# Altium footprint library NT90RNCS12CB.PcbLib: 1 footprints
Each footprint in its own frame and in the unit in brackets; x right, y up, seen from the top. Pads: shape width x height; smd on the part's side, far side on the other; paste and mask are expansions set on the pad; w line width, h text height; cw(c..) or ccw(c..) is an arc to the next point about the centre after c.
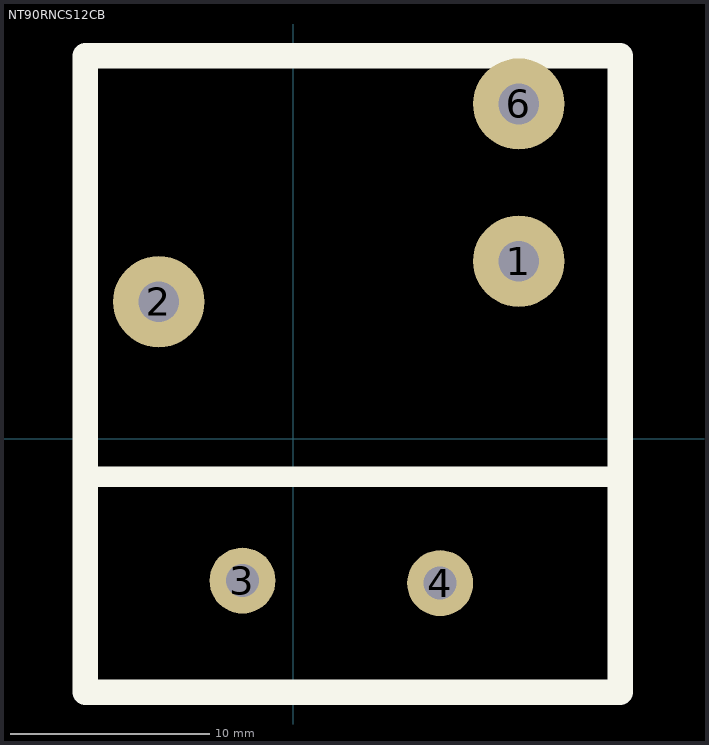
[diagram p0: the footprint, top view; thin cyan lines are the x and y axes]

## NT90RNCS12CB [mil]
pads (5):
  round 180 hole 80: 1(445,350) 2(-265,270) 6(445,660)
  round 130 hole 65: 3(-100,-280) 4(290,-285)
Top Overlay:
  lines w40: -410,-500 650,-500 650,-75 -410,-75 -410,-500
  lines w50: -410,-500 645,-500 645,755 -410,755 -410,-500
Bottom Overlay:
  lines w50: -410,-500 645,-500 645,755 -410,755 -410,-500
3D body "NT90RNCS12CB.STEP": height 157.48, standoff -787.4, extent -407.6,-499.02 639.65,749.02